# Altium schematic symbol library C-C0603C103K3RACTU.Schlib: 1 symbol
Pins are listed as number, name and electrical type; pins without a type are passive.

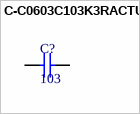
[diagram p0: symbol C-C0603C103K3RACTU]

## C-C0603C103K3RACTU
designator C?, comment 103
Multilayer Ceramic Capacitors MLCC - SMD/SMT 25volts 10000pF X7R 10%
pins: 1, 2